# EAGLE library part ISO7421FEDR (library IC)
DGTL ISO 2.5KV GEN PURP 8SOIC Manufacturer's datasheet <http://www.ti.com/lit/ds/symlink/iso7420e.pdf>
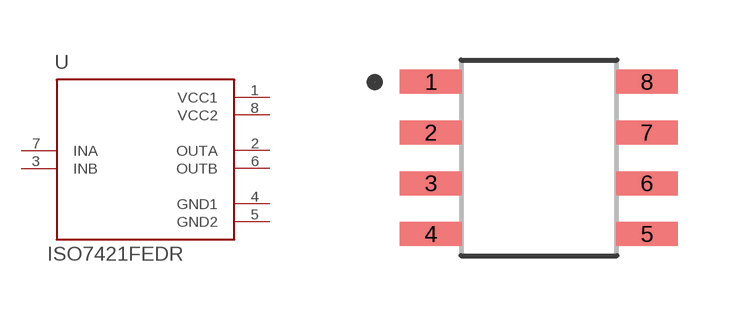
[diagram p2: symbol with the pads of 8-SOIC; footprint 8-SOIC]

Designator prefix U

## ISO7421FEDR (CREATED_BY: PCBLayout.com; DIGIKEY_PN: 296-48556-1-ND; MANUFACTURER: Texas Instruments; MPN: ISO7421FEDR; PACKAGE: 8-SOIC)  [8-SOIC]
1  VCC1  pwr
2  OUTA  out
3  INB  in
4  GND1  pwr
5  GND2  pwr
6  OUTB  out
7  INA  in
8  VCC2  pwr

## Footprint 8-SOIC (pad centres in mm)
smd 1.55 x 0.6: 1 -2.7,1.905; 2 -2.7,0.635; 3 -2.7,-0.635; 4 -2.7,-1.905; 5 2.7,-1.905; 6 2.7,-0.635; 7 2.7,0.635; 8 2.7,1.905